# EAGLE library part RESISTOR_ARRAY_8PIN (library SpaceDIY_IC)
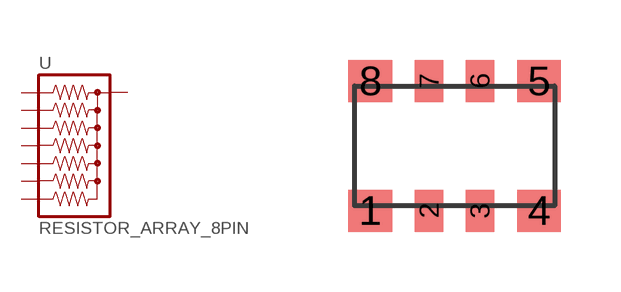
[diagram p1: symbol with the pads of CRA12E; footprint CRA12E]

Designator prefix -

## RESISTOR_ARRAY_8PIN  [CRA12E]
1  1  pas
2  2  pas
3  3  pas
4  4  pas
5  5  pas
6  6  pas
7  7  pas
8  8  pas

## Footprint CRA12E (pad centres in mm)
smd 1.09 x 1.05: 1 -2.11,-1.625; 4 2.11,-1.625; 5 2.11,1.625; 8 -2.11,1.625
smd 0.71 x 1.05: 2 -0.64,-1.625; 3 0.63,-1.625; 6 0.63,1.625; 7 -0.64,1.625